# Altium integrated library SpectrumAnalyserRecruitProjCallum.IntLib: 10 symbols
Pins are listed as number, name and electrical type; pins without a type are passive.

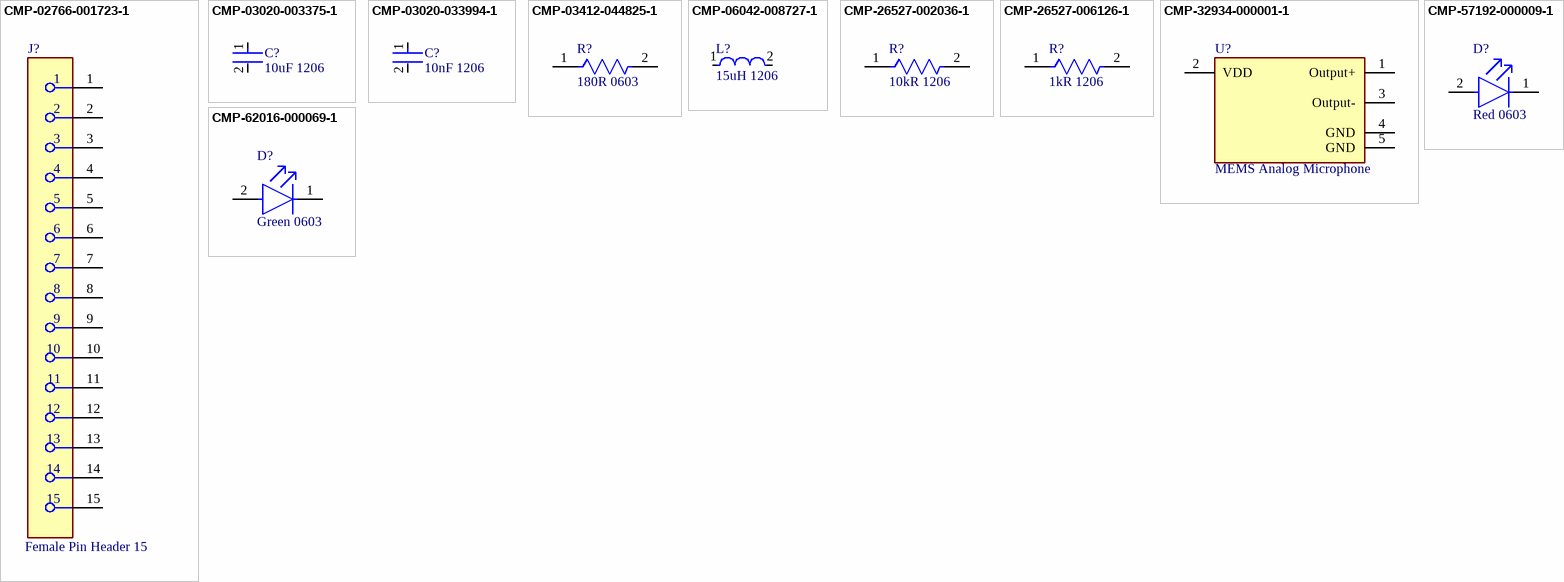
[diagram p0: symbols CMP-02766-001723-1 to CMP-62016-000069-1]

## CMP-02766-001723-1
designator J?, comment Female Pin Header 15
CONN RCPT 15POS 0.1 TIN PCB; Connector Type: Receptacle; Max Voltage Rating (AC): 550V; Mating Cycles: 100; Number of Positions: 15; Pitch: 0.1inch; Max Current Rating: 6.9A; Contact Resistance: 10mR; Contact Type: Female Socket; Color: Black; Depth: 2.41mm; Radiation Hardening: No; Orientation: Straight; Termination: Solder; Series: SSW; Lead Free: Lead Free; Min Operating Temperature: -55°C; Contact Plating: Tin; Contact Material: Bronze; Max Operating Temperature: 105°C; Mount: Through Hole; Packaging: Bulk; Gender: Receptacle; Housing Material: Polymer; RoHS Compliant: Yes; Length: 38.61mm; Number of Rows: 1; REACH SVHC: No SVHC; Width: 2.41mm; Number of Contacts: 15; Housing Color: Black
footprint FP-SSW-115-01-T-S-MFG
pins: 1, 2, 3, 4, 5, 6, 7, 8, 9, 10, 11, 12, 13, 14, 15

## CMP-03020-003375-1
designator C?, comment 10uF 1206
CAP CER 10UF 16V X7R 1206C1206C106K4RACAUTO; Manufacturer: Kemet; Material: Ceramic; Temperature Coefficient: 15%; Tolerance: 10%; Automotive Grade: Grade 1; Manufacturer Part Number: C1206C106K4RACAUTO; Digikey Description: CAP CER 10UF 16V X7R 1206; RoHS: TRUE; Temperature Range Low: -55°C; Ipc Land Pattern Name: CAPC320160X160; Category: Cap; Mouser Description: Multilayer Ceramic Capacitors MLCC - SMD/SMT 10uF 16V 10% AUTO; Device Class L1: Passive Components; Automotive: Yes; ComponentLink2Description: Datasheet; Octopart: https://octopart.com/c1206c106k4racauto-kemet-20072893; Package: C1206C-EH; Temperature: -55°C to +125°C; Device Class L3: Ceramic Capacitors; Device Class L2: Capacitors; Temperature Range High: +125°C; Capacitance: 10uF; Value: 10uF; Lead Free: Yes; Height: 1.8mm; Temperature Characteristic: X7R; ComponentLink2URL: https://content.kemet.com/datasheets/KEM_C1023_X7R_AUTO_SMD.pdf; Voltage Rating: 16V
footprint FP-C1206C-EH-MFG
footprint FP-C1206C-EH-IPC_C
footprint FP-C1206C-EH-IPC_B
footprint FP-C1206C-EH-IPC_A
pins: 1, 2

## CMP-03020-033994-1
designator C?, comment 10nF 1206
C1206 10,000 pF C0G 5.00% 50 V; Manufacturer: KEMET; Manufacturer Part Number: C1206C103J5GACAUTO; Material: Ceramic; Temperature Coefficient: 15%; Automotive Grade: Grade 0; Voltage Rating: 50 V; Tolerance: 0.05; Value: 10,000 pF; Height: 0.88mm; Octopart: https://octopart.com/c1206c103j5gacauto-kemet-88376196; Device Class L2: Capacitors; Device Class L1: Passive Components; Temperature Characteristic: C0G; Package: C1206C-EB; Temperature Range High: +150°C; ComponentLink2Description: Datasheet; Temperature: -55°C to +150°C; Lead Free: Yes; Ipc Land Pattern Name: CAPC320160X78; RoHS: TRUE; Temperature Range Low: -55°C; ComponentLink2URL: https://content.kemet.com/datasheets/KEM_C1007_X8R_ULTRA_150C_SMD.pdf; Device Class L3: Ceramic Capacitors; Category: Cap; Capacitance: 10,000 pF; Automotive: Yes
footprint FP-C1206C-EB-MFG
footprint FP-C1206C-EB-IPC_C
footprint FP-C1206C-EB-IPC_B
footprint FP-C1206C-EB-IPC_A
pins: 1, 2

## CMP-03412-044825-1
designator R?, comment 180R 0603
Anti-Sulfurated Chip Resistors Automotive Grade 180Ω 1% 100ppm/°C 0603; Max Power Dissipation: 100mW; Features: Moisture Resistant; Width: 0.031inch; Number of Terminations: 2; Case/Package: 0603; Temperature Coefficient: 100ppm/°C; Length: 0.063inch; Series: AF; Tolerance: 1%; Max Operating Temperature: 155°C; Resistance: 180R; Height: 0.022inch; RoHS Compliant: Yes; Resistor Type: Thick Film; Packaging: Tape and Reel; Min Operating Temperature: -55°C
footprint FP-AF0603-MFG
footprint FP-AF0603-IPC_B
footprint FP-AF0603-IPC_C
footprint FP-AF0603-IPC_A
pins: 1, 2

## CMP-06042-008727-1
designator L?, comment 15uH 1206
Wire Wound Ferrite Inductor for General Circuits 15μH ±5% 3.9Ω 90mA 1206; Shielding: Unshielded; Q Factor: 35; DC Resistance (DCR): 3R; Test Frequency: 1MHz; Self Resonant Frequency: 16MHz; Radiation Hardening: No; Military Standard: Not; Lead Free: Lead Free; Length: 0.126inch; Depth: 1.8mm; Packaging: Tape and Reel; Resistor Type: Wirewound; DC Current: 90mA; Package Quantity: 2000; Height: 1.8mm; Termination: SMD/SMT; Case Code (Imperial): 1206; Inductance: 15uH; Case/Package: 1206; Weight: 0.001023oz; Core Material: Ferrite; Tolerance: 5%; Min Operating Temperature: -40°C; Case Code (Metric): 3216; Max DC Current: 90mA; Height - Seated (Max): 0.078inch; Mount: Surface Mount; Current Rating: 90mA; Width: 0.063inch; Max Operating Temperature: 85°C
footprint FP-LQH31CN_03-MFG
pins: 1, 2

## CMP-26527-002036-1
designator R?, comment 10kR 1206
10kΩ ±1% 0.25W 1206 Thick Film Chip Resistor AEC-Q200 compliant; Max Power Dissipation: 250mW; Temperature Coefficient: 100ppm/°C; Construction: Rectangular; Contact Plating: Tin; Max Operating Temperature: 155°C; Features: Automotive AEC-Q200; Radiation Hardening: No; Military Standard: Not; RoHS Compliant: Yes; Length: 0.126inch; Resistance: 10kR; Number of Terminations: 2; Mount: Surface Mount; Case Code (Imperial): 1206; Case Code (Metric): 3216; Series: RMCF; Width: 0.063inch; Min Operating Temperature: -55°C; Height: 0.028inch; Resistor Type: Thick Film; Packaging: Tape and Reel; Tolerance: 1%; Depth: 1.6mm; Case/Package: 1206
footprint FP-RMCF1206-MFG
footprint FP-RMCF1206-IPC_A
footprint FP-RMCF1206-IPC_C
footprint FP-RMCF1206-IPC_B
pins: 1, 2

## CMP-26527-006126-1
designator R?, comment 1kR 1206
1kΩ ±5% 0.25W 1206 Thick Film Chip Resistor AEC-Q200 compliant; Max Power Dissipation: 250mW; Temperature Coefficient: 200ppm/°C; Resistor Type: Thick Film; Height: 0.028inch; Max Operating Temperature: 155°C; Resistance: 1kR; Features: Automotive AEC-Q200; Case/Package: 1206; Mount: Surface Mount; Series: RMCF; Min Operating Temperature: -55°C; Packaging: Tape and Reel; Contact Plating: Tin; Length: 0.126inch; Number of Terminations: 2; Radiation Hardening: No; Width: 0.063inch; Case Code (Metric): 3216; Case Code (Imperial): 1206; RoHS Compliant: Yes; Tolerance: 5%
footprint FP-RMCF1206-IPC_A
footprint FP-RMCF1206-IPC_B
footprint FP-RMCF1206-IPC_C
footprint FP-RMCF1206-MFG
pins: 1, 2

## CMP-32934-000001-1
designator U?, comment MEMS Analog Microphone
MICROPHONES_DIFFERENTIAT PG-LLGA IM73A135V01XTSA1
footprint FP-PG-LLGA-5-MFG
pins: 1 Output+, 2 VDD (power), 3 Output-, 4 GND (power), 5 GND (power)

## CMP-57192-000009-1
designator D?, comment Red 0603
LED RED DIFFUSED SMD; Test Current: 20mA; Forward Voltage: 2V; Approvals: UL; Dominant Wavelength: 636nm; Viewing Angle: 140°; Lens Color: White; Luminous Intensity: 60mcd; Power Rating: 50mW; Number of LEDs: 1; Color: Red; Forward Current: 20mA; Moisture Sensitivity Level: 2; Case Code (Imperial): 0603; Lead Free: Lead Free; Lens Transparency: Diffused; Case Code (Metric): 1608; Height: 0.6mm; Max Operating Temperature: 85°C; Width: 0.8mm; Lens Style: Diffused; Illumination Color: Red; Wavelength: 636nm; REACH SVHC: No SVHC; Package Quantity: 1; RoHS Compliant: Yes; Case/Package: 0603; Number of Pins: 2; Packaging: Tape and Reel; Length: 1.6mm; Mount: Surface Mount; Min Operating Temperature: -25°C
footprint FP-SML-LX0603SIW-TR-MFG
pins: 1 C, 2 A

## CMP-62016-000069-1
designator D?, comment Green 0603
LED GREEN DIFFUSED 0603 SMD; Lens Color: White; Wavelength: 573nm; Test Current: 20mA; Luminous Intensity: 163mcd; Lens Style: Flat; Lens Size: 0.8mm; Forward Voltage: 2V; Viewing Angle: 120°; Height: 0.4mm; Color: Green; Mount: Surface Mount; Case Code (Metric): 1608; Lens Transparency: Diffused; REACH SVHC: No SVHC; Length: 1.6mm; Width: 0.8mm; Dominant Wavelength: 573nm; RoHS Compliant: Yes; Case/Package: 0603; Case Code (Imperial): 0603; Packaging: Tape and Reel; Forward Current: 20mA
footprint FP-LG_Q396-MFG
pins: 1 C, 2 A